# EAGLE library part ER800TRS (library andereBauteile)
ER800TRS Funkmodul
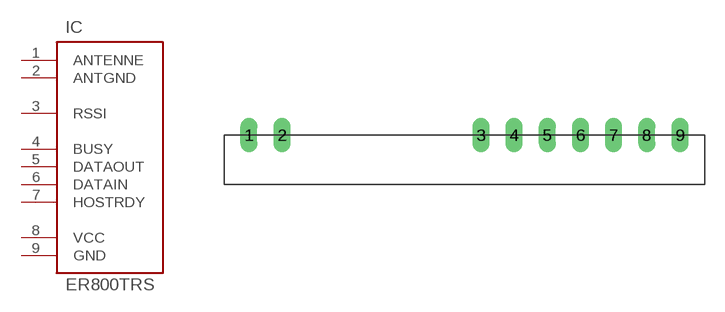
[diagram p35: symbol with the pads of ER800TRS; footprint ER800TRS]

Designator prefix IC

## ER800TRS  [ER800TRS]
1  ANTENNE
2  ANTGND  pwr
3  RSSI
4  BUSY  out
5  DATAOUT  out
6  DATAIN  in
7  HOSTRDY  in
8  VCC  pwr
9  GND  pwr

## Footprint ER800TRS (pad centres in mm)
drill 0.813 long: 1 -17.78,0; 2 -15.24,0; 3 0,0; 4 2.54,0; 5 5.08,0; 6 7.62,0; 7 10.16,0; 8 12.7,0; 9 15.24,0